# Altium schematic symbol library conn_header_1.00mm_st_smd_edge.SchLib: 7 symbols
Pins are listed as number, name and electrical type; pins without a type are passive.

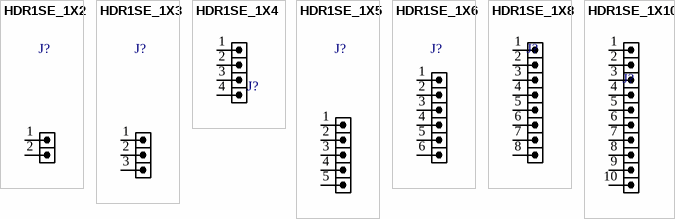
[diagram p0: symbols HDR1SE_1X2 to HDR1SE_1X10]

## HDR1SE_1X2
designator J?, comment HDR2  (value not drawn)
HEADER, 1mm pitch, test, SMD; VALUE: HDR2
footprint HDR1SE_M_1X2 (HEADER, 1mm, test, SMD)
pins: 1, 2

## HDR1SE_1X3
designator J?, comment HDR3  (value not drawn)
HEADER, 1mm pitch, test, SMD; VALUE: HDR3
footprint HDR1SE_M_1X3 (HEADER, 1mm, test, SMD)
pins: 1, 2, 3

## HDR1SE_1X4
designator J?, comment HDR4  (value not drawn)
HEADER, 1mm pitch, test, SMD; VALUE: HDR4
footprint HDR1SE_M_1X4 (HEADER, 1mm, test, SMD)
pins: 1, 2, 3, 4

## HDR1SE_1X5
designator J?, comment HDR_1X5  (value not drawn)
HEADER, 1mm pitch, test, SMD; VALUE: HDR_1X5
footprint HDR1SE_M_1X5 (HEADER, 1mm, test, SMD)
pins: 1, 2, 3, 4, 5

## HDR1SE_1X6
designator J?, comment HDR_1X8  (value not drawn)
HEADER, 1mm pitch, test, SMD; VALUE: HDR_1X8
footprint HDR1SE_M_1X8 (HEADER, 1mm, test, SMD)
pins: 1, 2, 3, 4, 5, 6

## HDR1SE_1X8
designator J?, comment HDR_1X8  (value not drawn)
HEADER, 1mm pitch, test, SMD; VALUE: HDR_1X8
footprint HDR1SE_M_1X8 (HEADER, 1mm, test, SMD)
pins: 1, 2, 3, 4, 5, 6, 7, 8

## HDR1SE_1X10
designator J?, comment HDR_1X11  (value not drawn)
HEADER, 1mm pitch, test, SMD; VALUE: HDR_1X11
footprint HDR1SE_M_1X10 (HEADER, 1mm, test, SMD)
pins: 1, 2, 3, 4, 5, 6, 7, 8, 9, 10